# EAGLE library part RASPBERRY-PI-PICO_TH (library picomohan)
Raspberry Pi Pico microcontroller board for through-hole mounting.
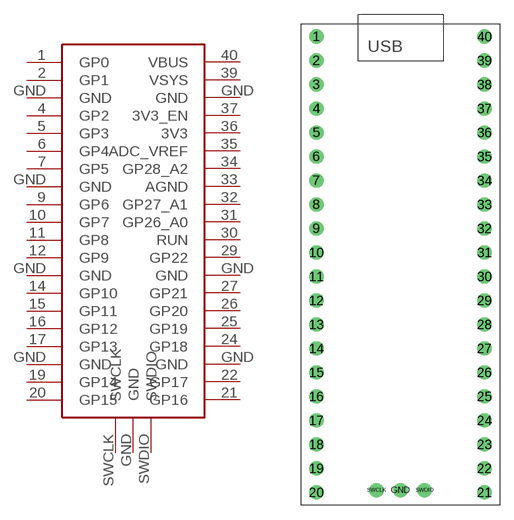
[diagram p0: symbol with the pads of FT_RASPBERRY-PI-PICO_TH; footprint FT_RASPBERRY-PI-PICO_TH]

Designator prefix -

## RASPBERRY-PI-PICO_TH  [FT_RASPBERRY-PI-PICO_TH]
1  GP0
2  GP1
3  GND
4  GP2
5  GP3
6  GP4
7  GP5
8  GND
9  GP6
10  GP7
11  GP8
12  GP9
13  GND
14  GP10
15  GP11
16  GP12
17  GP13
18  GND
19  GP14
20  GP15
21  GP16
22  GP17
23  GND
24  GP18
25  GP19
26  GP20
27  GP21
28  GND
29  GP22
30  RUN
31  GP26_A0
32  GP27_A1
33  AGND
34  GP28_A2
35  ADC_VREF
36  3V3
37  3V3_EN
38  GND
39  VSYS
40  VBUS
GND  GND
SWCLK  SWCLK
SWDIO  SWDIO

## Footprint FT_RASPBERRY-PI-PICO_TH (pad centres in mm)
Raspberry Pi Pico through-hole footprint
drill 1: 1 -8.55,24.03; 2 -8.55,21.49; 3 -8.55,18.95; 4 -8.55,16.41; 5 -8.55,13.87; 6 -8.55,11.33; 7 -8.55,8.79; 8 -8.55,6.25; 9 -8.55,3.71; 10 -8.55,1.17; 11 -8.55,-1.37; 12 -8.55,-3.91; 13 -8.55,-6.45; 14 -8.55,-8.99; 15 -8.55,-11.53; 16 -8.55,-14.07; 17 -8.55,-16.61; 18 -8.55,-19.15; 19 -8.55,-21.69; 20 -8.55,-24.23; 21 9.23,-24.23; 22 9.23,-21.69; 23 9.23,-19.15; 24 9.23,-16.61; 25 9.23,-14.07; 26 9.23,-11.53; 27 9.23,-8.99; 28 9.23,-6.45; 29 9.23,-3.91; 30 9.23,-1.37; 31 9.23,1.17; 32 9.23,3.71; 33 9.23,6.25; 34 9.23,8.79; 35 9.23,11.33; 36 9.23,13.87; 37 9.23,16.41; 38 9.23,18.95; 39 9.23,21.49; 40 9.23,24.03; GND 0.34,-24; SWCLK -2.2,-24; SWDIO 2.88,-24